# Altium integrated library Cypress USB Controllers.IntLib: 169 symbols (part 15 of 16)
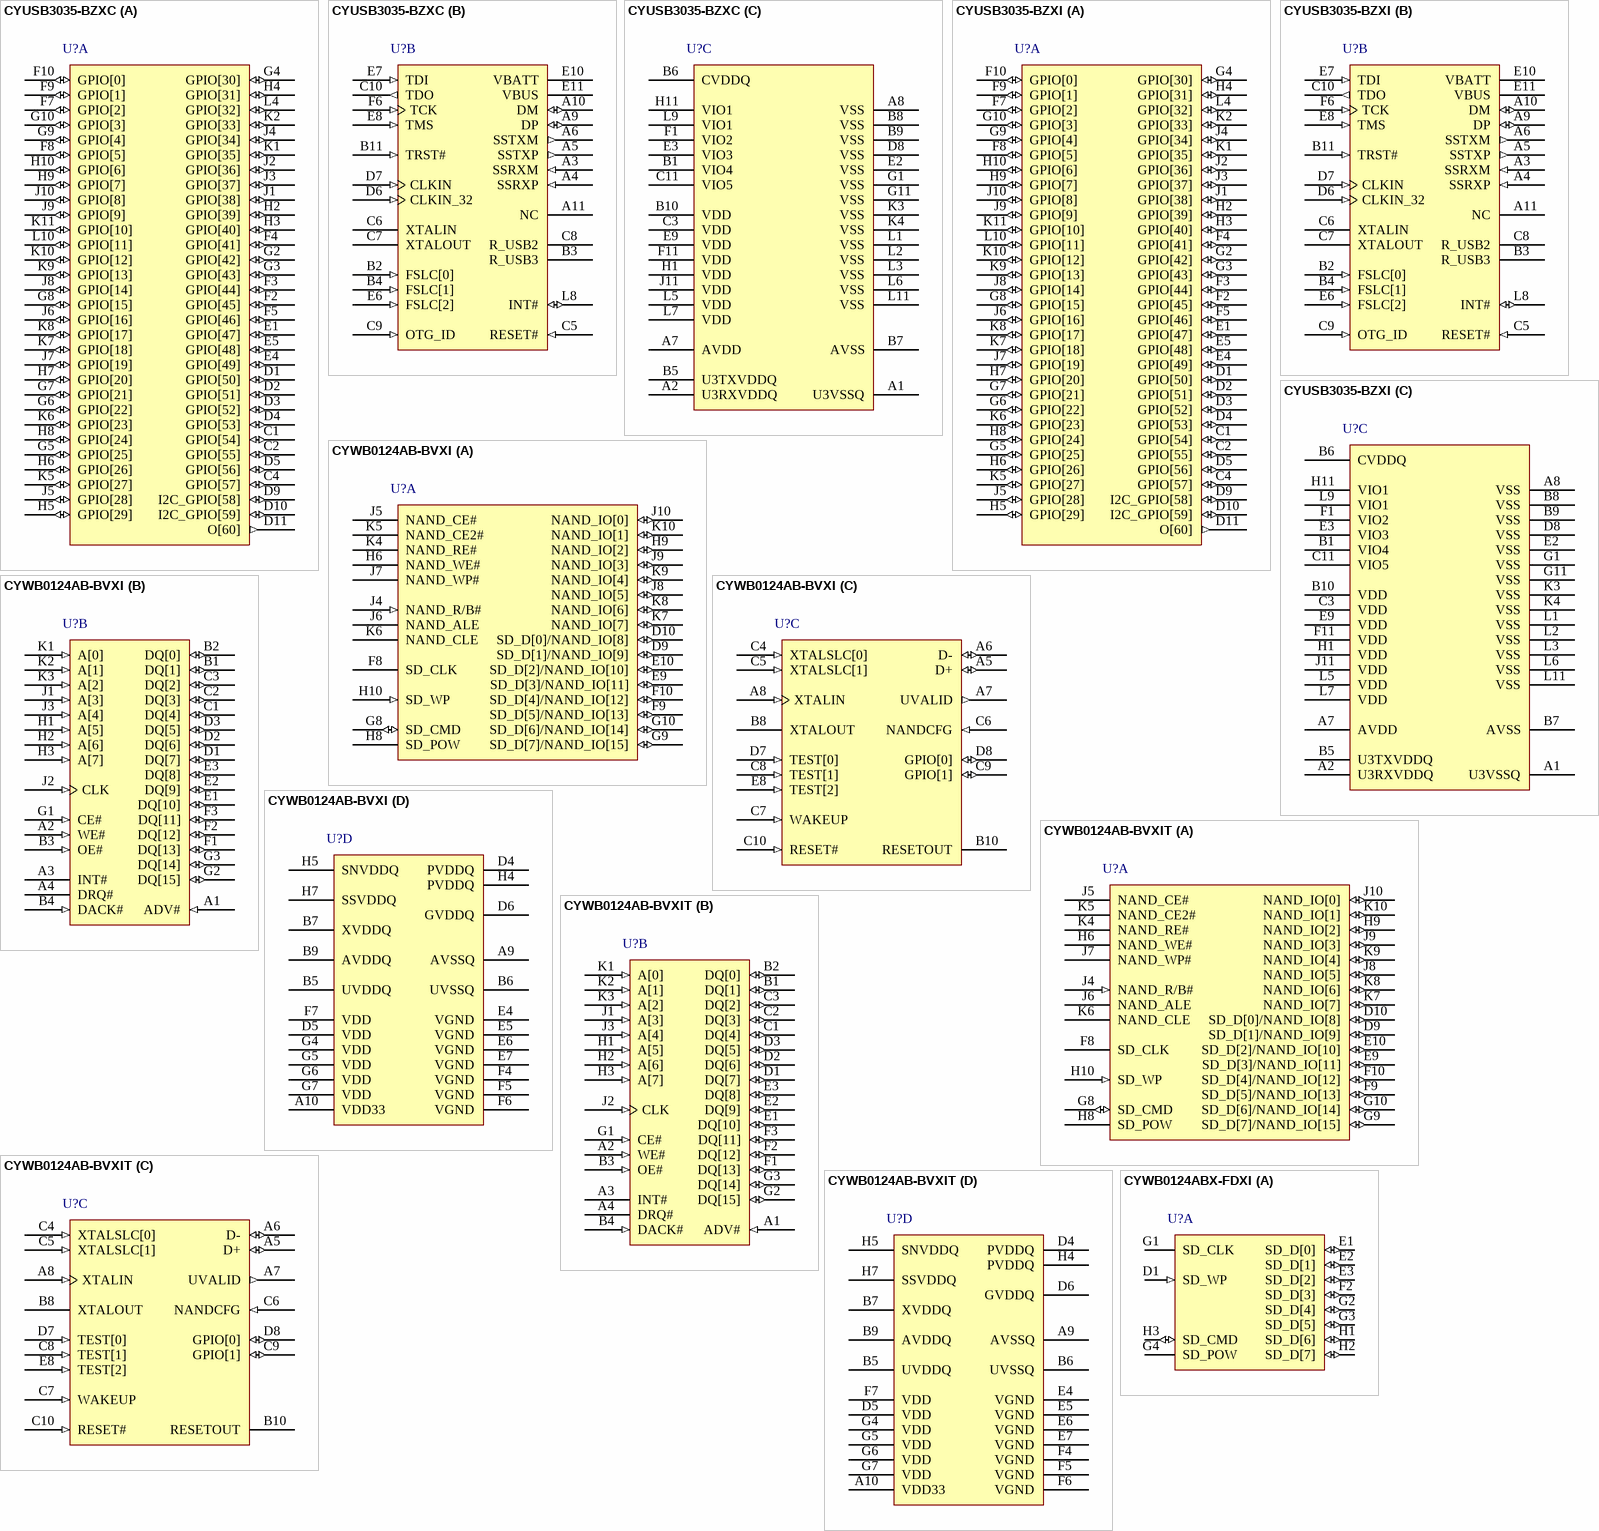
[diagram p36: symbols CYUSB3035-BZXC to CYWB0124ABX-FDXI]

## CYWB0124AB-BVXIT
designator U?
West Bridge(R) Antioch(TM) USB and Mass Storage Peripheral Controller, -40 to 85 degC, 100-Pin VFBGA (BVX100), Tape and Reel; Manufacturer: Cypress; PartNumber: CYWB0124AB-BVXIT; Max. Operating Voltage (V): 3.3; Min. Operating Voltage (V): 1.8; DatasheetVersion: Rev. *M; PackageVersion: Rev. *D; PackageReference: BVX100; PackageDescription: 100-Ball Fine-Pitch Ball Grid Array, Body 6 x 6 mm, Pitch 0.50 mm; Supplier 1: Digi-Key; Supplier Part Number 1: CYWB0124AB-BVXIT-ND; Supplier 2: Newark; Supplier Part Number 2: 41M1136; Supplier 3: Mouser; Supplier Part Number 3: 727-CYWB0124ABBVXIT; Max. Operating Temp. (degreesC): 85; Min. Operating Temp. (degreesC): -40; Packing: Tape and Reel; RoHS: Pb-Free; Mounting Technology: Surface Mount; ComponentLink1Description: Manufacturer URL; ComponentLink1URL: http://www.cypress.com/; ComponentLink2Description: Datasheet; ComponentLink2URL: http://www.cypress.com/?docID=46966; ComponentLink3Description: Package Specification; ComponentLink3URL: http://www.cypress.com/?docID=46966
footprint CYP-BVX100 (BGA, 100-Balls, Body 6x6mm, Pitch 0.5mm)
part A pins: D9 SD_D[1]/NAND_IO[9] (io) "Serve as SD_D[1] for SD port or NAND_IO[9] for NAND Upper I/O port depending on NANDCFG selection. NAND configuration is not available in WLCSP.", D10 SD_D[0]/NAND_IO[8] (io) "Serve as SD_D[0] for SD port or NAND_IO[8] for NAND Upper I/O port depending on NANDCFG selection. NAND configuration is not available in WLCSP.", E9 SD_D[3]/NAND_IO[11] (io) "Serve as SD_D[3] for SD port or NAND_IO[11] for NAND Upper I/O port depending on NANDCFG selection. NAND configuration is not available in WLCSP.", E10 SD_D[2]/NAND_IO[10] (io) "Serve as SD_D[2] for SD port or NAND_IO[10] for NAND Upper I/O port depending on NANDCFG selection. NAND configuration is not available in WLCSP.", F8 SD_CLK (hiz) "Clock output for the SD interface. Frequency is changed and clock is disabled through firmware control.", F9 SD_D[5]/NAND_IO[13] (io) "Serve as SD_D[5] for SD port or NAND_IO[13] forNAND Upper I/O port depending on NANDCFG selection. NAND configuration is not available in WLCSP.", F10 SD_D[4]/NAND_IO[12] (io) "Serve as SD_D[4] for SD port or NAND_IO[12] for NAND Upper I/O port depending on NANDCFG selection. NAND configuration is not available in WLCSP.", G8 SD_CMD (io) "SD Command/Response Ball.", G9 SD_D[7]/NAND_IO[15] (io) "Serve as SD_D[7] for SD port or NAND_IO[15] for NAND Upper I/O port depending on NANDCFG selection. NAND configuration is not available in WLCSP.", G10 SD_D[6]/NAND_IO[14] (io) "Serve as SD_D[6] for SD port or NAND_IO[14] for NAND Upper I/O port depending on NANDCFG selection. NAND configuration is not available in WLCSP.", H6 NAND_WE# (hiz) "NAND Write Enable. Active LOW.", H8 SD_POW (hiz) "SD Power Control. This GPIO is used to control SD/MMC card power FET if present. HIGH indicates on, LOW indicates off.", H9 NAND_IO[2] (io) "NAND_IO[2] for NAND Upper I/O port", H10 SD_WP (in) "SD Write Protection Detection. Connected to GPIO for firmware detection. HIGH indicates that the device connected to the SD port has write protect enabled.", J4 NAND_R/B# (in) "NAND Ready/Busy. NAND output is Open Drain. Active LOW.", J5 NAND_CE# (hiz) "NAND Chip Enable. Active LOW.", J6 NAND_ALE (hiz) "NAND Address Latch Enable.", J7 NAND_WP# (hiz) "NAND Write Protect. Active LOW.", J8 NAND_IO[5] (io) "NAND_IO[5] for NAND Upper I/O port", J9 NAND_IO[3] (io) "NAND_IO[3] for NAND Upper I/O port", J10 NAND_IO[0] (io) "NAND_IO[0] for NAND Upper I/O port", K4 NAND_RE# (hiz) "NAND Read Enable. Active LOW.", K5 NAND_CE2# (hiz) "NAND Chip Enable 2. Allows to access the second NAND device. Active LOW.", K6 NAND_CLE (hiz) "NAND Command Latch Enable.", K7 NAND_IO[7] (io) "NAND_IO[7] for NAND Upper I/O port", K8 NAND_IO[6] (io) "NAND_IO[6] for NAND Upper I/O port", K9 NAND_IO[4] (io) "NAND_IO[4] for NAND Upper I/O port", K10 NAND_IO[1] (io) "NAND_IO[1] for NAND Upper I/O port"
part B pins: A1 ADV# (in) "Address Valid for P-port. Valid during asynchronous mode. ADV# deassertion causes to latch the address.", A2 WE# (in) "Write Enable. Signals a read (HIGH) or write (LOW) access cycle.", A3 INT# (hiz) "Interrupt Request. Assertion indicates that aninterrupt event has occurred. Active LOW.", A4 DRQ# (hiz) "DMA Request. Assertion indicates to Processor that it is ready to read or write one or more endpoints. It reflects register CY_AN_MEM_P0_DRQ EPnDRQ assertions. Active LOW or HIGH (programmable).", B1 DQ[1] (io) "Bit 1 of Data Bus for P-port", B2 DQ[0] (io) "Bit 0 of Data Bus for P-port", B3 OE# (in) "Output Enable. Controls the data bus output drive. Ignored during write cycle. Active LOW.", B4 DACK# (in) "DMA Acknowledgement. Assertion indicates DMA acknowledgement from processor. Is configured in ACK mode (asserted throughout DMA transfer) or EOB mode (pulsed at end of DMA transfer). Active LOW or HIGH (program-mable).", C1 DQ[4] (io) "Bit 4 of Data Bus for P-port", C2 DQ[3] (io) "Bit 3 of Data Bus for P-port", C3 DQ[2] (io) "Bit 2 of Data Bus for P-port", D1 DQ[7] (io) "Bit 7 of Data Bus for P-port", D2 DQ[6] (io) "Bit 6 of Data Bus for P-port", D3 DQ[5] (io) "Bit 5 of Data Bus for P-port", E1 DQ[10] (io) "Bit 10 of Data Bus for P-port", E2 DQ[9] (io) "Bit 9 of Data Bus for P-port", E3 DQ[8] (io) "Bit 8 of Data Bus for P-port", F1 DQ[13] (io) "Bit 13 of Data Bus for P-port", F2 DQ[12] (io) "Bit 12 of Data Bus for P-port", F3 DQ[11] (io) "Bit 11 of Data Bus for P-port", G1 CE# (in) "Chip Select for P-port. Active LOW", G2 DQ[15] (io) "Bit 15 of Data Bus for P-port", G3 DQ[14] (io) "Bit 14 of Data Bus for P-port", H1 A[5] (in) "Bit 5 of Address Bus for P-port", H2 A[6] (in) "Bit 6 of Address Bus for P-port", H3 A[7] (in) "Bit 7 of Address Bus for P-port", J1 A[3] (in) "Bit 3 of Address Bus for P-port", J2 CLK (in) "Clock for P-port", J3 A[4] (in) "Bit 4 of Address Bus for P-port", K1 A[0] (in) "Bit 0 of Address Bus for P-port", K2 A[1] (in) "Bit 1 of Address Bus for P-port", K3 A[2] (in) "Bit 2 of Address Bus for P-port"
part C pins: A5 D+ (io) "USB D+", A6 D- (io) "USB D-", A7 UVALID (out) "External USB Switch Control. Reflects value of register CY_AN_MEM_PMU_UPDATE.UVALID.", A8 XTALIN (in) "Input for either crystal or clock signal. XVDDQ is 3.3 V for crystal input; XVDDQ is 1.8 V for clock input.", B8 XTALOUT "Output to connect to feedback input of crystal. Is leftfloating when external clock at XTALIN.", B10 RESETOUT (hiz) "Reset Out. Deasserted LOW when RESET# is asserted LOW. Asserted HIGH after RESET# is deasserted and initialization is complete. Reflectsvalue of RSTCMPT bit.", C4 XTALSLC[0] (in) "Clock Select. For CYWB0124AB, XTALSLC[1:0] is decoded as: 00 = 19.2 MHz, 01 = 24 MHz, 10 = 48 MHz, 11 = 26 MHz.", C5 XTALSLC[1] (in) "Clock Select. For CYWB0124AB, XTALSLC[1:0] is decoded as: 00 = 19.2 MHz, 01 = 24 MHz, 10 = 48 MHz, 11 = 26 MHz.", C6 NANDCFG (in) "S-port Configuration. '0' selects 8-bit NAND andSD/MMC configuration. '1' selects 16-bit NAND configuration.", C7 WAKEUP (in) "Wake Up Signal. 1 = normal operation, 0 = low power“sleep” mode. Is asserted for Antioch to initialize.", C8 TEST[1] (in) "Test mode selection. Is tied to VGND for normal operation (CMOS level inputs).", C9 GPIO[1] (io) "General purpose input/output.", C10 RESET# (in) "Reset. Asserted to place Antioch into reset mode and subsequent initialization. Active LOW.", D7 TEST[0] (in) "Test mode selection. Is tied to VGND for normal operation (CMOS level inputs).", D8 GPIO[0] (io) "General purpose input/output.GPIO[0] is used for SD Card Detect with firmware detection. LOW indicates card is inserted.", E8 TEST[2] (in) "Test mode selection. Is tied to VGND for normal operation (CMOS level inputs)."
part D pins: A9 AVSSQ (power) "Ground for PLL.", A10 VDD33 (power) "Power sequence control supply. 3.3 V nominal.", B5 UVDDQ (power) "Power for USB I/O. 3.3 V nominal.", B6 UVSSQ (power) "Ground for all USB.", B7 XVDDQ (power) "Power for crystal or clock I/O. 1.8 V (clock) or 3.3 V (crystal) nominal.", B9 AVDDQ (power) "Power for internal PLL and USB serializer. 1.8 V nominal.", D4 PVDDQ (power) "Power for P-port I/O. 1.8 V, 2.5 V, or 3.3 V nominal.", D5 VDD (power) "Power for core. 1.8 V nominal.", D6 GVDDQ (power) "Power for miscellaneous I/O. 1.8 V, 2.5 V, or 3.3 V nominal.", E4 VGND (power) "Ground for core.", E5 VGND (power) "Ground for core.", E6 VGND (power) "Ground for core.", E7 VGND (power) "Ground for core.", F4 VGND (power) "Ground for core.", F5 VGND (power) "Ground for core.", F6 VGND (power) "Ground for core.", F7 VDD (power) "Power for core. 1.8 V nominal.", G4 VDD (power) "Power for core. 1.8 V nominal.", G5 VDD (power) "Power for core. 1.8 V nominal.", G6 VDD (power) "Power for core. 1.8 V nominal.", G7 VDD (power) "Power for core. 1.8 V nominal.", H4 PVDDQ (power) "Power for P-port I/O. 1.8 V, 2.5 V, or 3.3 V nominal.", H5 SNVDDQ (power) "Power for NAND port I/O. 1.8 V, 2.5 V, or 3.3 V nominal.", H7 SSVDDQ (power) "Power for SD port, is connected to SNVDDQ if using 16-bit NAND. 1.8 V, 2.5 V, or 3.3 V nominal."

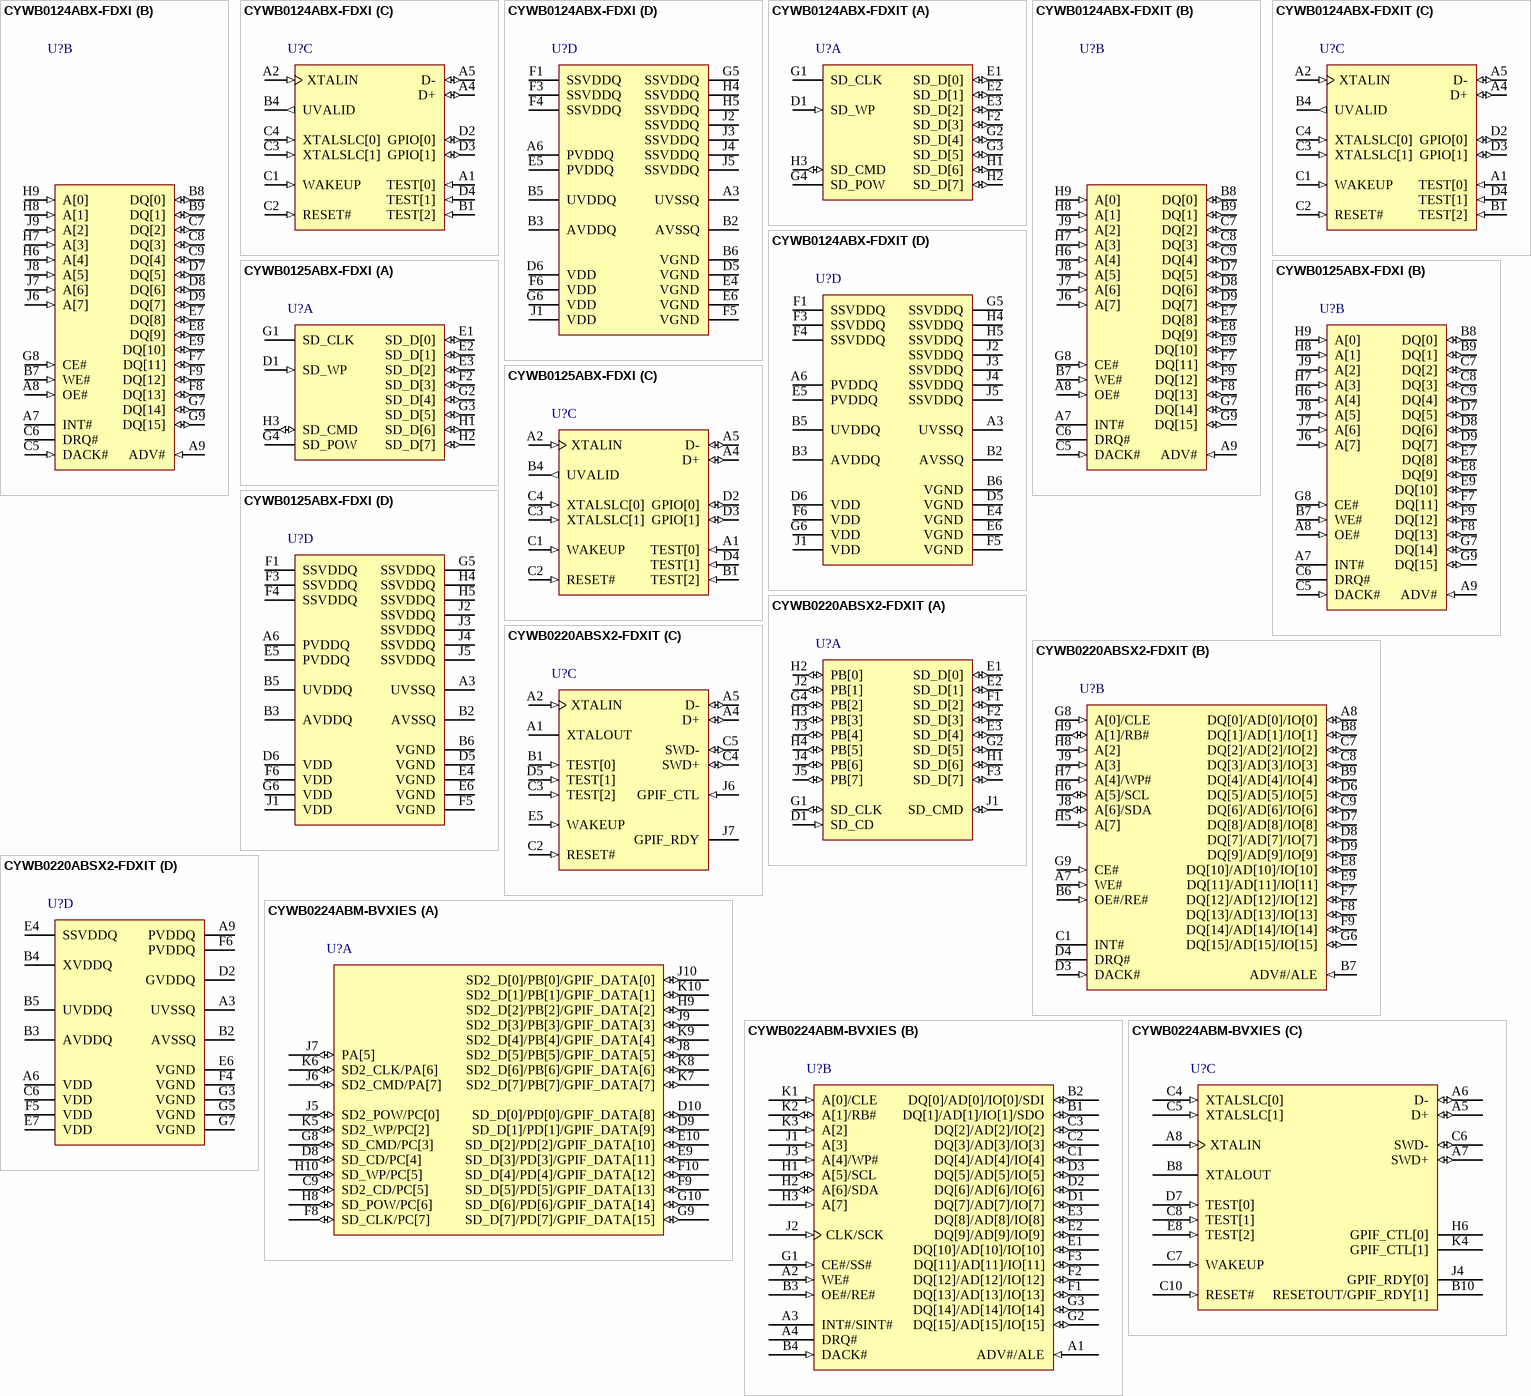
[diagram p18: symbols CYWB0124ABX-FDXI to CYWB0224ABM-BVXIES]

## CYWB0124ABX-FDXI
designator U?
West Bridge(R) Antioch(TM) USB and Mass Storage Peripheral Controller, -40 to 85 degC, 81-Pin WLCSP (FDX81); Manufacturer: Cypress; PartNumber: CYWB0124ABX-FDXI; Max. Operating Voltage (V): 3.3; Min. Operating Voltage (V): 1.8; DatasheetVersion: Rev. *M; PackageVersion: Rev. *F; PackageReference: FDX81; PackageDescription: 81-Ball Wafer Level Chip Scale Package, Body 3.788 x 3.784 mm, Pitch 0.4 mm; Supplier 1: Mouser; Supplier Part Number 1: 727-CYWB0124ABX-FDXI; Max. Operating Temp. (degreesC): 85; Min. Operating Temp. (degreesC): -40; RoHS: Pb-Free; Mounting Technology: Surface Mount; ComponentLink1Description: Manufacturer URL; ComponentLink1URL: http://www.cypress.com/; ComponentLink2Description: Datasheet; ComponentLink2URL: http://www.cypress.com/?docID=46966; ComponentLink3Description: Package Specification; ComponentLink3URL: http://www.cypress.com/?docID=46966
footprint CYP-FDX81 (BGA, 81-Balls, Body 3.79x3.78mm, Pitch 0.4mm)
part A pins: D1 SD_WP (in) "SD Write Protection Detection. Connected to GPIO for firmware detection. HIGH indicates that the device connected to the SD port has write protect enabled.", E1 SD_D[0] (io) "Serve as SD_D[0] for SD port or NAND_IO[8] for NAND Upper I/O port depending on NANDCFG selection. NAND configuration is not available in WLCSP.", E2 SD_D[1] (io) "Serve as SD_D[1] for SD port or NAND_IO[9] for NAND Upper I/O port depending on NANDCFG selection. NAND configuration is not available in WLCSP.", E3 SD_D[2] (io) "Serve as SD_D[2] for SD port or NAND_IO[10] for NAND Upper I/O port depending on NANDCFG selection. NAND configuration is not available in WLCSP.", F2 SD_D[3] (io) "Serve as SD_D[3] for SD port or NAND_IO[11] for NAND Upper I/O port depending on NANDCFG selection. NAND configuration is not available in WLCSP.", G1 SD_CLK (hiz) "Clock output for the SD interface. Frequency is changed and clock is disabled through firmware control.", G2 SD_D[4] (io) "Serve as SD_D[4] for SD port or NAND_IO[12] for NAND Upper I/O port depending on NANDCFG selection. NAND configuration is not available in WLCSP.", G3 SD_D[5] (io) "Serve as SD_D[5] for SD port or NAND_IO[13] forNAND Upper I/O port depending on NANDCFG selection. NAND configuration is not available in WLCSP.", G4 SD_POW (hiz) "SD Power Control. This GPIO is used to control SD/MMC card power FET if present. HIGH indicates on, LOW indicates off.", H1 SD_D[6] (io) "Serve as SD_D[6] for SD port or NAND_IO[14] for NAND Upper I/O port depending on NANDCFG selection. NAND configuration is not available in WLCSP.", H2 SD_D[7] (io) "Serve as SD_D[7] for SD port or NAND_IO[15] for NAND Upper I/O port depending on NANDCFG selection. NAND configuration is not available in WLCSP.", H3 SD_CMD (io) "SD Command/Response Ball."
part B pins: A7 INT# (hiz) "Interrupt Request. Assertion indicates that aninterrupt event has occurred. Active LOW.", A8 OE# (in) "Output Enable. Controls the data bus output drive. Ignored during write cycle. Active LOW.", A9 ADV# (in) "Address Valid for P-port. Valid during asynchronous mode. ADV# deassertion causes to latch the address.", B7 WE# (in) "Write Enable. Signals a read (HIGH) or write (LOW) access cycle.", B8 DQ[0] (io) "Bit 0 of Data Bus for P-port", B9 DQ[1] (io) "Bit 1 of Data Bus for P-port", C5 DACK# (in) "DMA Acknowledgement. Assertion indicates DMA acknowledgement from processor. Is configured in ACK mode (asserted throughout DMA transfer) or EOB mode (pulsed at end of DMA transfer). Active LOW or HIGH (program-mable).", C6 DRQ# (hiz) "DMA Request. Assertion indicates to Processor that it is ready to read or write one or more endpoints. It reflects register CY_AN_MEM_P0_DRQ EPnDRQ assertions. Active LOW or HIGH (programmable).", C7 DQ[2] (io) "Bit 2 of Data Bus for P-port", C8 DQ[3] (io) "Bit 3 of Data Bus for P-port", C9 DQ[4] (io) "Bit 4 of Data Bus for P-port", D7 DQ[5] (io) "Bit 5 of Data Bus for P-port", D8 DQ[6] (io) "Bit 6 of Data Bus for P-port", D9 DQ[7] (io) "Bit 7 of Data Bus for P-port", E7 DQ[8] (io) "Bit 8 of Data Bus for P-port", E8 DQ[9] (io) "Bit 9 of Data Bus for P-port", E9 DQ[10] (io) "Bit 10 of Data Bus for P-port", F7 DQ[11] (io) "Bit 11 of Data Bus for P-port", F8 DQ[13] (io) "Bit 13 of Data Bus for P-port", F9 DQ[12] (io) "Bit 12 of Data Bus for P-port", G7 DQ[14] (io) "Bit 14 of Data Bus for P-port", G8 CE# (in) "Chip Select for P-port. Active LOW", G9 DQ[15] (io) "Bit 15 of Data Bus for P-port", H6 A[4] (in) "Bit 4 of Address Bus for P-port", H7 A[3] (in) "Bit 3 of Address Bus for P-port", H8 A[1] (in) "Bit 1 of Address Bus for P-port", H9 A[0] (in) "Bit 0 of Address Bus for P-port", J6 A[7] (in) "Bit 7 of Address Bus for P-port", J7 A[6] (in) "Bit 6 of Address Bus for P-port", J8 A[5] (in) "Bit 5 of Address Bus for P-port", J9 A[2] (in) "Bit 2 of Address Bus for P-port"
part C pins: A1 TEST[0] (in) "Test mode selection. Is tied to VGND for normal operation (CMOS level inputs).", A2 XTALIN (in) "Input for either crystal or clock signal. XVDDQ is 3.3 V for crystal input; XVDDQ is 1.8 V for clock input.", A4 D+ (io) "USB D+", A5 D- (io) "USB D-", B1 TEST[2] (in) "Test mode selection. Is tied to VGND for normal operation (CMOS level inputs).", B4 UVALID (out) "External USB Switch Control. Reflects value of register CY_AN_MEM_PMU_UPDATE.UVALID.", C1 WAKEUP (in) "Wake Up Signal. 1 = normal operation, 0 = low power 'sleep' mode. Is asserted for Antioch to initialize.", C2 RESET# (in) "Reset. Asserted to place Antioch into reset mode and subsequent initialization. Active LOW.", C3 XTALSLC[1] (in) "Clock Select. For CYWB0124AB, XTALSLC[1:0] is decoded as: 00 = 19.2 MHz, 01 = 24 MHz, 10 = 48 MHz, 11 = 26 MHz.", C4 XTALSLC[0] (in) "Clock Select. For CYWB0124AB, XTALSLC[1:0] is decoded as: 00 = 19.2 MHz, 01 = 24 MHz, 10 = 48 MHz, 11 = 26 MHz.", D2 GPIO[0] (io) "General purpose input/output.GPIO[0] is used for SD Card Detect with firmware detection. LOW indicates card is inserted.", D3 GPIO[1] (io) "General purpose input/output.", D4 TEST[1] (in) "Test mode selection. Is tied to VGND for normal operation (CMOS level inputs)."
part D pins: A3 UVSSQ (power) "Ground for all USB.", A6 PVDDQ (power) "Power for P-port I/O. 1.8 V, 2.5 V, or 3.3 V nominal.", B2 AVSSQ (power) "Ground for PLL.", B3 AVDDQ (power) "Power for internal PLL and USB serializer. 1.8 V nominal.", B5 UVDDQ (power) "Power for USB I/O. 3.3 V nominal.", B6 VGND (power) "Ground for core.", D5 VGND (power) "Ground for core.", D6 VDD (power) "Power for core. 1.8 V nominal.", E4 VGND (power) "Ground for core.", E5 PVDDQ (power) "Power for P-port I/O. 1.8 V, 2.5 V, or 3.3 V nominal.", E6 VGND (power) "Ground for core.", F1 SSVDDQ (power) "Power for SD port, is connected to SNVDDQ if using 16-bit NAND. 1.8 V, 2.5 V, or 3.3 V nominal.", F3 SSVDDQ (power) "Power for SD port, is connected to SNVDDQ if using 16-bit NAND. 1.8 V, 2.5 V, or 3.3 V nominal.", F4 SSVDDQ (power) "Power for SD port, is connected to SNVDDQ if using 16-bit NAND. 1.8 V, 2.5 V, or 3.3 V nominal.", F5 VGND (power) "Ground for core.", F6 VDD (power) "Power for core. 1.8 V nominal.", G5 SSVDDQ (power) "Power for SD port, is connected to SNVDDQ if using 16-bit NAND. 1.8 V, 2.5 V, or 3.3 V nominal.", G6 VDD (power) "Power for core. 1.8 V nominal.", H4 SSVDDQ (power) "Power for SD port, is connected to SNVDDQ if using 16-bit NAND. 1.8 V, 2.5 V, or 3.3 V nominal.", H5 SSVDDQ (power) "Power for SD port, is connected to SNVDDQ if using 16-bit NAND. 1.8 V, 2.5 V, or 3.3 V nominal.", J1 VDD (power) "Power for core. 1.8 V nominal.", J2 SSVDDQ (power) "Power for SD port, is connected to SNVDDQ if using 16-bit NAND. 1.8 V, 2.5 V, or 3.3 V nominal.", J3 SSVDDQ (power) "Power for SD port, is connected to SNVDDQ if using 16-bit NAND. 1.8 V, 2.5 V, or 3.3 V nominal.", J4 SSVDDQ (power) "Power for SD port, is connected to SNVDDQ if using 16-bit NAND. 1.8 V, 2.5 V, or 3.3 V nominal.", J5 SSVDDQ (power) "Power for SD port, is connected to SNVDDQ if using 16-bit NAND. 1.8 V, 2.5 V, or 3.3 V nominal."

## CYWB0124ABX-FDXIT
designator U?
West Bridge(R) Antioch(TM) USB and Mass Storage Peripheral Controller, -40 to 85 degC, 81-Pin WLCSP (FDX81), Tape and Reel; Manufacturer: Cypress; PartNumber: CYWB0124ABX-FDXIT; Max. Operating Voltage (V): 3.3; Min. Operating Voltage (V): 1.8; DatasheetVersion: Rev. *M; PackageVersion: Rev. *F; PackageReference: FDX81; PackageDescription: 81-Ball Wafer Level Chip Scale Package, Body 3.788 x 3.784 mm, Pitch 0.4 mm; Supplier 1: Digi-Key; Supplier Part Number 1: CYWB0124ABX-FDXIT-ND; Supplier 2: Mouser; Supplier Part Number 2: 727-CYWB0124ABXFDXIT; Max. Operating Temp. (degreesC): 85; Min. Operating Temp. (degreesC): -40; Packing: Tape and Reel; RoHS: Pb-Free; Mounting Technology: Surface Mount; ComponentLink1Description: Manufacturer URL; ComponentLink1URL: http://www.cypress.com/; ComponentLink2Description: Datasheet; ComponentLink2URL: http://www.cypress.com/?docID=46966; ComponentLink3Description: Package Specification; ComponentLink3URL: http://www.cypress.com/?docID=46966
footprint CYP-FDX81 (BGA, 81-Balls, Body 3.79x3.78mm, Pitch 0.4mm)
part A pins: D1 SD_WP (in) "SD Write Protection Detection. Connected to GPIO for firmware detection. HIGH indicates that the device connected to the SD port has write protect enabled.", E1 SD_D[0] (io) "Serve as SD_D[0] for SD port or NAND_IO[8] for NAND Upper I/O port depending on NANDCFG selection. NAND configuration is not available in WLCSP.", E2 SD_D[1] (io) "Serve as SD_D[1] for SD port or NAND_IO[9] for NAND Upper I/O port depending on NANDCFG selection. NAND configuration is not available in WLCSP.", E3 SD_D[2] (io) "Serve as SD_D[2] for SD port or NAND_IO[10] for NAND Upper I/O port depending on NANDCFG selection. NAND configuration is not available in WLCSP.", F2 SD_D[3] (io) "Serve as SD_D[3] for SD port or NAND_IO[11] for NAND Upper I/O port depending on NANDCFG selection. NAND configuration is not available in WLCSP.", G1 SD_CLK (hiz) "Clock output for the SD interface. Frequency is changed and clock is disabled through firmware control.", G2 SD_D[4] (io) "Serve as SD_D[4] for SD port or NAND_IO[12] for NAND Upper I/O port depending on NANDCFG selection. NAND configuration is not available in WLCSP.", G3 SD_D[5] (io) "Serve as SD_D[5] for SD port or NAND_IO[13] forNAND Upper I/O port depending on NANDCFG selection. NAND configuration is not available in WLCSP.", G4 SD_POW (hiz) "SD Power Control. This GPIO is used to control SD/MMC card power FET if present. HIGH indicates on, LOW indicates off.", H1 SD_D[6] (io) "Serve as SD_D[6] for SD port or NAND_IO[14] for NAND Upper I/O port depending on NANDCFG selection. NAND configuration is not available in WLCSP.", H2 SD_D[7] (io) "Serve as SD_D[7] for SD port or NAND_IO[15] for NAND Upper I/O port depending on NANDCFG selection. NAND configuration is not available in WLCSP.", H3 SD_CMD (io) "SD Command/Response Ball."
part B pins: A7 INT# (hiz) "Interrupt Request. Assertion indicates that aninterrupt event has occurred. Active LOW.", A8 OE# (in) "Output Enable. Controls the data bus output drive. Ignored during write cycle. Active LOW.", A9 ADV# (in) "Address Valid for P-port. Valid during asynchronous mode. ADV# deassertion causes to latch the address.", B7 WE# (in) "Write Enable. Signals a read (HIGH) or write (LOW) access cycle.", B8 DQ[0] (io) "Bit 0 of Data Bus for P-port", B9 DQ[1] (io) "Bit 1 of Data Bus for P-port", C5 DACK# (in) "DMA Acknowledgement. Assertion indicates DMA acknowledgement from processor. Is configured in ACK mode (asserted throughout DMA transfer) or EOB mode (pulsed at end of DMA transfer). Active LOW or HIGH (program-mable).", C6 DRQ# (hiz) "DMA Request. Assertion indicates to Processor that it is ready to read or write one or more endpoints. It reflects register CY_AN_MEM_P0_DRQ EPnDRQ assertions. Active LOW or HIGH (programmable).", C7 DQ[2] (io) "Bit 2 of Data Bus for P-port", C8 DQ[3] (io) "Bit 3 of Data Bus for P-port", C9 DQ[4] (io) "Bit 4 of Data Bus for P-port", D7 DQ[5] (io) "Bit 5 of Data Bus for P-port", D8 DQ[6] (io) "Bit 6 of Data Bus for P-port", D9 DQ[7] (io) "Bit 7 of Data Bus for P-port", E7 DQ[8] (io) "Bit 8 of Data Bus for P-port", E8 DQ[9] (io) "Bit 9 of Data Bus for P-port", E9 DQ[10] (io) "Bit 10 of Data Bus for P-port", F7 DQ[11] (io) "Bit 11 of Data Bus for P-port", F8 DQ[13] (io) "Bit 13 of Data Bus for P-port", F9 DQ[12] (io) "Bit 12 of Data Bus for P-port", G7 DQ[14] (io) "Bit 14 of Data Bus for P-port", G8 CE# (in) "Chip Select for P-port. Active LOW", G9 DQ[15] (io) "Bit 15 of Data Bus for P-port", H6 A[4] (in) "Bit 4 of Address Bus for P-port", H7 A[3] (in) "Bit 3 of Address Bus for P-port", H8 A[1] (in) "Bit 1 of Address Bus for P-port", H9 A[0] (in) "Bit 0 of Address Bus for P-port", J6 A[7] (in) "Bit 7 of Address Bus for P-port", J7 A[6] (in) "Bit 6 of Address Bus for P-port", J8 A[5] (in) "Bit 5 of Address Bus for P-port", J9 A[2] (in) "Bit 2 of Address Bus for P-port"
part C pins: A1 TEST[0] (in) "Test mode selection. Is tied to VGND for normal operation (CMOS level inputs).", A2 XTALIN (in) "Input for either crystal or clock signal. XVDDQ is 3.3 V for crystal input; XVDDQ is 1.8 V for clock input.", A4 D+ (io) "USB D+", A5 D- (io) "USB D-", B1 TEST[2] (in) "Test mode selection. Is tied to VGND for normal operation (CMOS level inputs).", B4 UVALID (out) "External USB Switch Control. Reflects value of register CY_AN_MEM_PMU_UPDATE.UVALID.", C1 WAKEUP (in) "Wake Up Signal. 1 = normal operation, 0 = low power 'sleep' mode. Is asserted for Antioch to initialize.", C2 RESET# (in) "Reset. Asserted to place Antioch into reset mode and subsequent initialization. Active LOW.", C3 XTALSLC[1] (in) "Clock Select. For CYWB0124AB, XTALSLC[1:0] is decoded as: 00 = 19.2 MHz, 01 = 24 MHz, 10 = 48 MHz, 11 = 26 MHz.", C4 XTALSLC[0] (in) "Clock Select. For CYWB0124AB, XTALSLC[1:0] is decoded as: 00 = 19.2 MHz, 01 = 24 MHz, 10 = 48 MHz, 11 = 26 MHz.", D2 GPIO[0] (io) "General purpose input/output.GPIO[0] is used for SD Card Detect with firmware detection. LOW indicates card is inserted.", D3 GPIO[1] (io) "General purpose input/output.", D4 TEST[1] (in) "Test mode selection. Is tied to VGND for normal operation (CMOS level inputs)."
part D pins: A3 UVSSQ (power) "Ground for all USB.", A6 PVDDQ (power) "Power for P-port I/O. 1.8 V, 2.5 V, or 3.3 V nominal.", B2 AVSSQ (power) "Ground for PLL.", B3 AVDDQ (power) "Power for internal PLL and USB serializer. 1.8 V nominal.", B5 UVDDQ (power) "Power for USB I/O. 3.3 V nominal.", B6 VGND (power) "Ground for core.", D5 VGND (power) "Ground for core.", D6 VDD (power) "Power for core. 1.8 V nominal.", E4 VGND (power) "Ground for core.", E5 PVDDQ (power) "Power for P-port I/O. 1.8 V, 2.5 V, or 3.3 V nominal.", E6 VGND (power) "Ground for core.", F1 SSVDDQ (power) "Power for SD port, is connected to SNVDDQ if using 16-bit NAND. 1.8 V, 2.5 V, or 3.3 V nominal.", F3 SSVDDQ (power) "Power for SD port, is connected to SNVDDQ if using 16-bit NAND. 1.8 V, 2.5 V, or 3.3 V nominal.", F4 SSVDDQ (power) "Power for SD port, is connected to SNVDDQ if using 16-bit NAND. 1.8 V, 2.5 V, or 3.3 V nominal.", F5 VGND (power) "Ground for core.", F6 VDD (power) "Power for core. 1.8 V nominal.", G5 SSVDDQ (power) "Power for SD port, is connected to SNVDDQ if using 16-bit NAND. 1.8 V, 2.5 V, or 3.3 V nominal.", G6 VDD (power) "Power for core. 1.8 V nominal.", H4 SSVDDQ (power) "Power for SD port, is connected to SNVDDQ if using 16-bit NAND. 1.8 V, 2.5 V, or 3.3 V nominal.", H5 SSVDDQ (power) "Power for SD port, is connected to SNVDDQ if using 16-bit NAND. 1.8 V, 2.5 V, or 3.3 V nominal.", J1 VDD (power) "Power for core. 1.8 V nominal.", J2 SSVDDQ (power) "Power for SD port, is connected to SNVDDQ if using 16-bit NAND. 1.8 V, 2.5 V, or 3.3 V nominal.", J3 SSVDDQ (power) "Power for SD port, is connected to SNVDDQ if using 16-bit NAND. 1.8 V, 2.5 V, or 3.3 V nominal.", J4 SSVDDQ (power) "Power for SD port, is connected to SNVDDQ if using 16-bit NAND. 1.8 V, 2.5 V, or 3.3 V nominal.", J5 SSVDDQ (power) "Power for SD port, is connected to SNVDDQ if using 16-bit NAND. 1.8 V, 2.5 V, or 3.3 V nominal."

## CYWB0125ABX-FDXI
designator U?
West Bridge(R) Antioch(TM) USB and Mass Storage Peripheral Controller, -40 to 85 degC, 81-Pin WLCSP (FDX81); Manufacturer: Cypress; PartNumber: CYWB0125ABX-FDXI; Max. Operating Voltage (V): 3.3; Min. Operating Voltage (V): 1.8; DatasheetVersion: Rev. *M; PackageVersion: Rev. *F; PackageReference: FDX81; PackageDescription: 81-Ball Wafer Level Chip Scale Package, Body 3.788 x 3.784 mm, Pitch 0.4 mm; Max. Operating Temp. (degreesC): 85; Min. Operating Temp. (degreesC): -40; RoHS: Pb-Free; Mounting Technology: Surface Mount; ComponentLink1Description: Manufacturer URL; ComponentLink1URL: http://www.cypress.com/; ComponentLink2Description: Datasheet; ComponentLink2URL: http://www.cypress.com/?docID=46966; ComponentLink3Description: Package Specification; ComponentLink3URL: http://www.cypress.com/?docID=46966
footprint CYP-FDX81 (BGA, 81-Balls, Body 3.79x3.78mm, Pitch 0.4mm)
part A pins: D1 SD_WP (in) "SD Write Protection Detection. Connected to GPIO for firmware detection. HIGH indicates that the device connected to the SD port has write protect enabled.", E1 SD_D[0] (io) "Serve as SD_D[0] for SD port or NAND_IO[8] for NAND Upper I/O port depending on NANDCFG selection. NAND configuration is not available in WLCSP.", E2 SD_D[1] (io) "Serve as SD_D[1] for SD port or NAND_IO[9] for NAND Upper I/O port depending on NANDCFG selection. NAND configuration is not available in WLCSP.", E3 SD_D[2] (io) "Serve as SD_D[2] for SD port or NAND_IO[10] for NAND Upper I/O port depending on NANDCFG selection. NAND configuration is not available in WLCSP.", F2 SD_D[3] (io) "Serve as SD_D[3] for SD port or NAND_IO[11] for NAND Upper I/O port depending on NANDCFG selection. NAND configuration is not available in WLCSP.", G1 SD_CLK (hiz) "Clock output for the SD interface. Frequency is changed and clock is disabled through firmware control.", G2 SD_D[4] (io) "Serve as SD_D[4] for SD port or NAND_IO[12] for NAND Upper I/O port depending on NANDCFG selection. NAND configuration is not available in WLCSP.", G3 SD_D[5] (io) "Serve as SD_D[5] for SD port or NAND_IO[13] forNAND Upper I/O port depending on NANDCFG selection. NAND configuration is not available in WLCSP.", G4 SD_POW (hiz) "SD Power Control. This GPIO is used to control SD/MMC card power FET if present. HIGH indicates on, LOW indicates off.", H1 SD_D[6] (io) "Serve as SD_D[6] for SD port or NAND_IO[14] for NAND Upper I/O port depending on NANDCFG selection. NAND configuration is not available in WLCSP.", H2 SD_D[7] (io) "Serve as SD_D[7] for SD port or NAND_IO[15] for NAND Upper I/O port depending on NANDCFG selection. NAND configuration is not available in WLCSP.", H3 SD_CMD (io) "SD Command/Response Ball."
part B pins: A7 INT# (hiz) "Interrupt Request. Assertion indicates that aninterrupt event has occurred. Active LOW.", A8 OE# (in) "Output Enable. Controls the data bus output drive. Ignored during write cycle. Active LOW.", A9 ADV# (in) "Address Valid for P-port. Valid during asynchronous mode. ADV# deassertion causes to latch the address.", B7 WE# (in) "Write Enable. Signals a read (HIGH) or write (LOW) access cycle.", B8 DQ[0] (io) "Bit 0 of Data Bus for P-port", B9 DQ[1] (io) "Bit 1 of Data Bus for P-port", C5 DACK# (in) "DMA Acknowledgement. Assertion indicates DMA acknowledgement from processor. Is configured in ACK mode (asserted throughout DMA transfer) or EOB mode (pulsed at end of DMA transfer). Active LOW or HIGH (program-mable).", C6 DRQ# (hiz) "DMA Request. Assertion indicates to Processor that it is ready to read or write one or more endpoints. It reflects register CY_AN_MEM_P0_DRQ EPnDRQ assertions. Active LOW or HIGH (programmable).", C7 DQ[2] (io) "Bit 2 of Data Bus for P-port", C8 DQ[3] (io) "Bit 3 of Data Bus for P-port", C9 DQ[4] (io) "Bit 4 of Data Bus for P-port", D7 DQ[5] (io) "Bit 5 of Data Bus for P-port", D8 DQ[6] (io) "Bit 6 of Data Bus for P-port", D9 DQ[7] (io) "Bit 7 of Data Bus for P-port", E7 DQ[8] (io) "Bit 8 of Data Bus for P-port", E8 DQ[9] (io) "Bit 9 of Data Bus for P-port", E9 DQ[10] (io) "Bit 10 of Data Bus for P-port", F7 DQ[11] (io) "Bit 11 of Data Bus for P-port", F8 DQ[13] (io) "Bit 13 of Data Bus for P-port", F9 DQ[12] (io) "Bit 12 of Data Bus for P-port", G7 DQ[14] (io) "Bit 14 of Data Bus for P-port", G8 CE# (in) "Chip Select for P-port. Active LOW", G9 DQ[15] (io) "Bit 15 of Data Bus for P-port", H6 A[4] (in) "Bit 4 of Address Bus for P-port", H7 A[3] (in) "Bit 3 of Address Bus for P-port", H8 A[1] (in) "Bit 1 of Address Bus for P-port", H9 A[0] (in) "Bit 0 of Address Bus for P-port", J6 A[7] (in) "Bit 7 of Address Bus for P-port", J7 A[6] (in) "Bit 6 of Address Bus for P-port", J8 A[5] (in) "Bit 5 of Address Bus for P-port", J9 A[2] (in) "Bit 2 of Address Bus for P-port"
part C pins: A1 TEST[0] (in) "Test mode selection. Is tied to VGND for normal operation (CMOS level inputs).", A2 XTALIN (in) "Input for either crystal or clock signal. XVDDQ is 3.3 V for crystal input; XVDDQ is 1.8 V for clock input.", A4 D+ (io) "USB D+", A5 D- (io) "USB D-", B1 TEST[2] (in) "Test mode selection. Is tied to VGND for normal operation (CMOS level inputs).", B4 UVALID (out) "External USB Switch Control. Reflects value of register CY_AN_MEM_PMU_UPDATE.UVALID.", C1 WAKEUP (in) "Wake Up Signal. 1 = normal operation, 0 = low power 'sleep' mode. Is asserted for Antioch to initialize.", C2 RESET# (in) "Reset. Asserted to place Antioch into reset mode and subsequent initialization. Active LOW.", C3 XTALSLC[1] (in) "Clock Select. For CYWB0124AB, XTALSLC[1:0] is decoded as: 00 = 19.2 MHz, 01 = 24 MHz, 10 = 48 MHz, 11 = 26 MHz.", C4 XTALSLC[0] (in) "Clock Select. For CYWB0124AB, XTALSLC[1:0] is decoded as: 00 = 19.2 MHz, 01 = 24 MHz, 10 = 48 MHz, 11 = 26 MHz.", D2 GPIO[0] (io) "General purpose input/output.GPIO[0] is used for SD Card Detect with firmware detection. LOW indicates card is inserted.", D3 GPIO[1] (io) "General purpose input/output.", D4 TEST[1] (in) "Test mode selection. Is tied to VGND for normal operation (CMOS level inputs)."
part D pins: A3 UVSSQ (power) "Ground for all USB.", A6 PVDDQ (power) "Power for P-port I/O. 1.8 V, 2.5 V, or 3.3 V nominal.", B2 AVSSQ (power) "Ground for PLL.", B3 AVDDQ (power) "Power for internal PLL and USB serializer. 1.8 V nominal.", B5 UVDDQ (power) "Power for USB I/O. 3.3 V nominal.", B6 VGND (power) "Ground for core.", D5 VGND (power) "Ground for core.", D6 VDD (power) "Power for core. 1.8 V nominal.", E4 VGND (power) "Ground for core.", E5 PVDDQ (power) "Power for P-port I/O. 1.8 V, 2.5 V, or 3.3 V nominal.", E6 VGND (power) "Ground for core.", F1 SSVDDQ (power) "Power for SD port, is connected to SNVDDQ if using 16-bit NAND. 1.8 V, 2.5 V, or 3.3 V nominal.", F3 SSVDDQ (power) "Power for SD port, is connected to SNVDDQ if using 16-bit NAND. 1.8 V, 2.5 V, or 3.3 V nominal.", F4 SSVDDQ (power) "Power for SD port, is connected to SNVDDQ if using 16-bit NAND. 1.8 V, 2.5 V, or 3.3 V nominal.", F5 VGND (power) "Ground for core.", F6 VDD (power) "Power for core. 1.8 V nominal.", G5 SSVDDQ (power) "Power for SD port, is connected to SNVDDQ if using 16-bit NAND. 1.8 V, 2.5 V, or 3.3 V nominal.", G6 VDD (power) "Power for core. 1.8 V nominal.", H4 SSVDDQ (power) "Power for SD port, is connected to SNVDDQ if using 16-bit NAND. 1.8 V, 2.5 V, or 3.3 V nominal.", H5 SSVDDQ (power) "Power for SD port, is connected to SNVDDQ if using 16-bit NAND. 1.8 V, 2.5 V, or 3.3 V nominal.", J1 VDD (power) "Power for core. 1.8 V nominal.", J2 SSVDDQ (power) "Power for SD port, is connected to SNVDDQ if using 16-bit NAND. 1.8 V, 2.5 V, or 3.3 V nominal.", J3 SSVDDQ (power) "Power for SD port, is connected to SNVDDQ if using 16-bit NAND. 1.8 V, 2.5 V, or 3.3 V nominal.", J4 SSVDDQ (power) "Power for SD port, is connected to SNVDDQ if using 16-bit NAND. 1.8 V, 2.5 V, or 3.3 V nominal.", J5 SSVDDQ (power) "Power for SD port, is connected to SNVDDQ if using 16-bit NAND. 1.8 V, 2.5 V, or 3.3 V nominal."

## CYWB0220ABSX2-FDXIT
designator U?
West Bridge(R) Astoria(TM) USB and Mass Storage Peripheral Controller, -40 to 85 degC, 81-Pin WLCSP (FNX81), Tape and Reel; Manufacturer: Cypress; PartNumber: CYWB0220ABSX2-FDXIT; Max. Operating Voltage (V): 3.3; Min. Operating Voltage (V): 1.8; DatasheetVersion: Rev. *N; PackageVersion: Rev. *C; PackageReference: FNX81; PackageDescription: 81-Ball WLCSP, Body 3.91 x 3.907 mm, Pitch 0.4 mm; Max. Operating Temp. (degreesC): 85; Min. Operating Temp. (degreesC): -40; Packing: Tape and Reel; RoHS: Pb-Free; Mounting Technology: Surface Mount; Code_JEDEC: Publication 95; ComponentLink1Description: Manufacturer URL; ComponentLink1URL: http://www.cypress.com/; ComponentLink2Description: Datasheet; ComponentLink2URL: http://www.cypress.com/?docID=41721; ComponentLink3Description: Package Specification; ComponentLink3URL: http://www.cypress.com/?docID=45114
footprint CYP-FNX81 (BGA, 81-Balls, Body 3.91x3.91mm, Pitch 0.4mm)
part A pins: D1 SD_CD (in), E1 SD_D[0] (io) "SD Data or GPIO", E2 SD_D[1] (io) "SD Data or GPIO", E3 SD_D[4] (io) "SD Data or GPIO", F1 SD_D[2] (io) "SD Data or GPIO", F2 SD_D[3] (io) "SD Data or GPIO", F3 SD_D[7] (io) "SD Data or GPIO", G1 SD_CLK (io) "SD Clock or GPIO", G2 SD_D[5] (io) "SD Data or PIO", G4 PB[2] (io) "GPIO", H1 SD_D[6] (io) "SD Data or GPIO", H2 PB[0] (io) "GPIO", H3 PB[3] (io) "GPIO", H4 PB[5] (io) "GPIO", J1 SD_CMD (io) "SD CMD or GPIO", J2 PB[1] (io) "GPIO", J3 PB[4] (io) "GPIO", J4 PB[6] (io) "GPIO", J5 PB[7] (io) "GPIO"
part B pins: A7 WE# (in), A8 DQ[0]/AD[0]/IO[0] (io), B6 OE#/RE# (in), B7 ADV#/ALE (in), B8 DQ[1]/AD[1]/IO[1] (io), B9 DQ[4]/AD[4]/IO[4] (io), C1 INT# (hiz) "INT Request", C7 DQ[2]/AD[2]/IO[2] (io), C8 DQ[3]/AD[3]/IO[3] (io), C9 DQ[6]/AD[6]/IO[6] (io), D3 DACK# (in) "DMA ACK", D4 DRQ# (hiz) "DMA Request", D6 DQ[5]/AD[5]/IO[5] (io), D7 DQ[8]/AD[8]/IO[8] (io), D8 DQ[7]/AD[7]/IO[7] (io), D9 DQ[9]/AD[9]/IO[9] (io), E8 DQ[10]/AD[10]/IO[10] (io), E9 DQ[11]/AD[11]/IO[11] (io), F7 DQ[12]/AD[12]/IO[12] (io), F8 DQ[13]/AD[13]/IO[13] (io), F9 DQ[14]/AD[14]/IO[14] (io), G6 DQ[15]/AD[15]/IO[15] (io), G8 A[0]/CLE (in), G9 CE# (in), H5 A[7] (in), H6 A[5]/SCL (io), H7 A[4]/WP# (in), H8 A[2] (in), H9 A[1]/RB# (io), J8 A[6]/SDA (io), J9 A[3] (in)
part C pins: A1 XTALOUT "Clock OUT", A2 XTALIN (in) "Clock IN", A4 D+ (io) "USB D+", A5 D- (io) "USB D-", B1 TEST[0] (in) "Test Cfg 0", C2 RESET# (in) "RESET", C3 TEST[2] (in) "Test Cfg 2", C4 SWD+ (io) "USB Switch DP", C5 SWD- (io) "USB Switch DM", D5 TEST[1] (in) "Test Cfg 1", E5 WAKEUP (in) "Wake Up Signal", J6 GPIF_CTL (in) "Test Mode (ExtPull-High)", J7 GPIF_RDY (hiz) "Test Mode"
part D pins: A3 UVSSQ (power) "USB GND", A6 VDD (power) "Core VDD", A9 PVDDQ (power) "Processor I/F VDD", B2 AVSSQ (power) "Analog GND", B3 AVDDQ (power) "Analog VDD", B4 XVDDQ (power) "Crystal VDD", B5 UVDDQ (power) "USBVDD", C6 VDD (power) "Core VDD", D2 GVDDQ (power) "Misc I/O VDD", E4 SSVDDQ (power) "SDIO VDD", E6 VGND (power) "Core GND", E7 VDD (power) "Core VDD", F4 VGND (power) "Core GND", F5 VDD (power) "Core VDD", F6 PVDDQ (power) "Processor I/F VDD", G3 VGND (power) "Core GND", G5 VGND (power) "Core GND", G7 VGND (power) "Core GND"

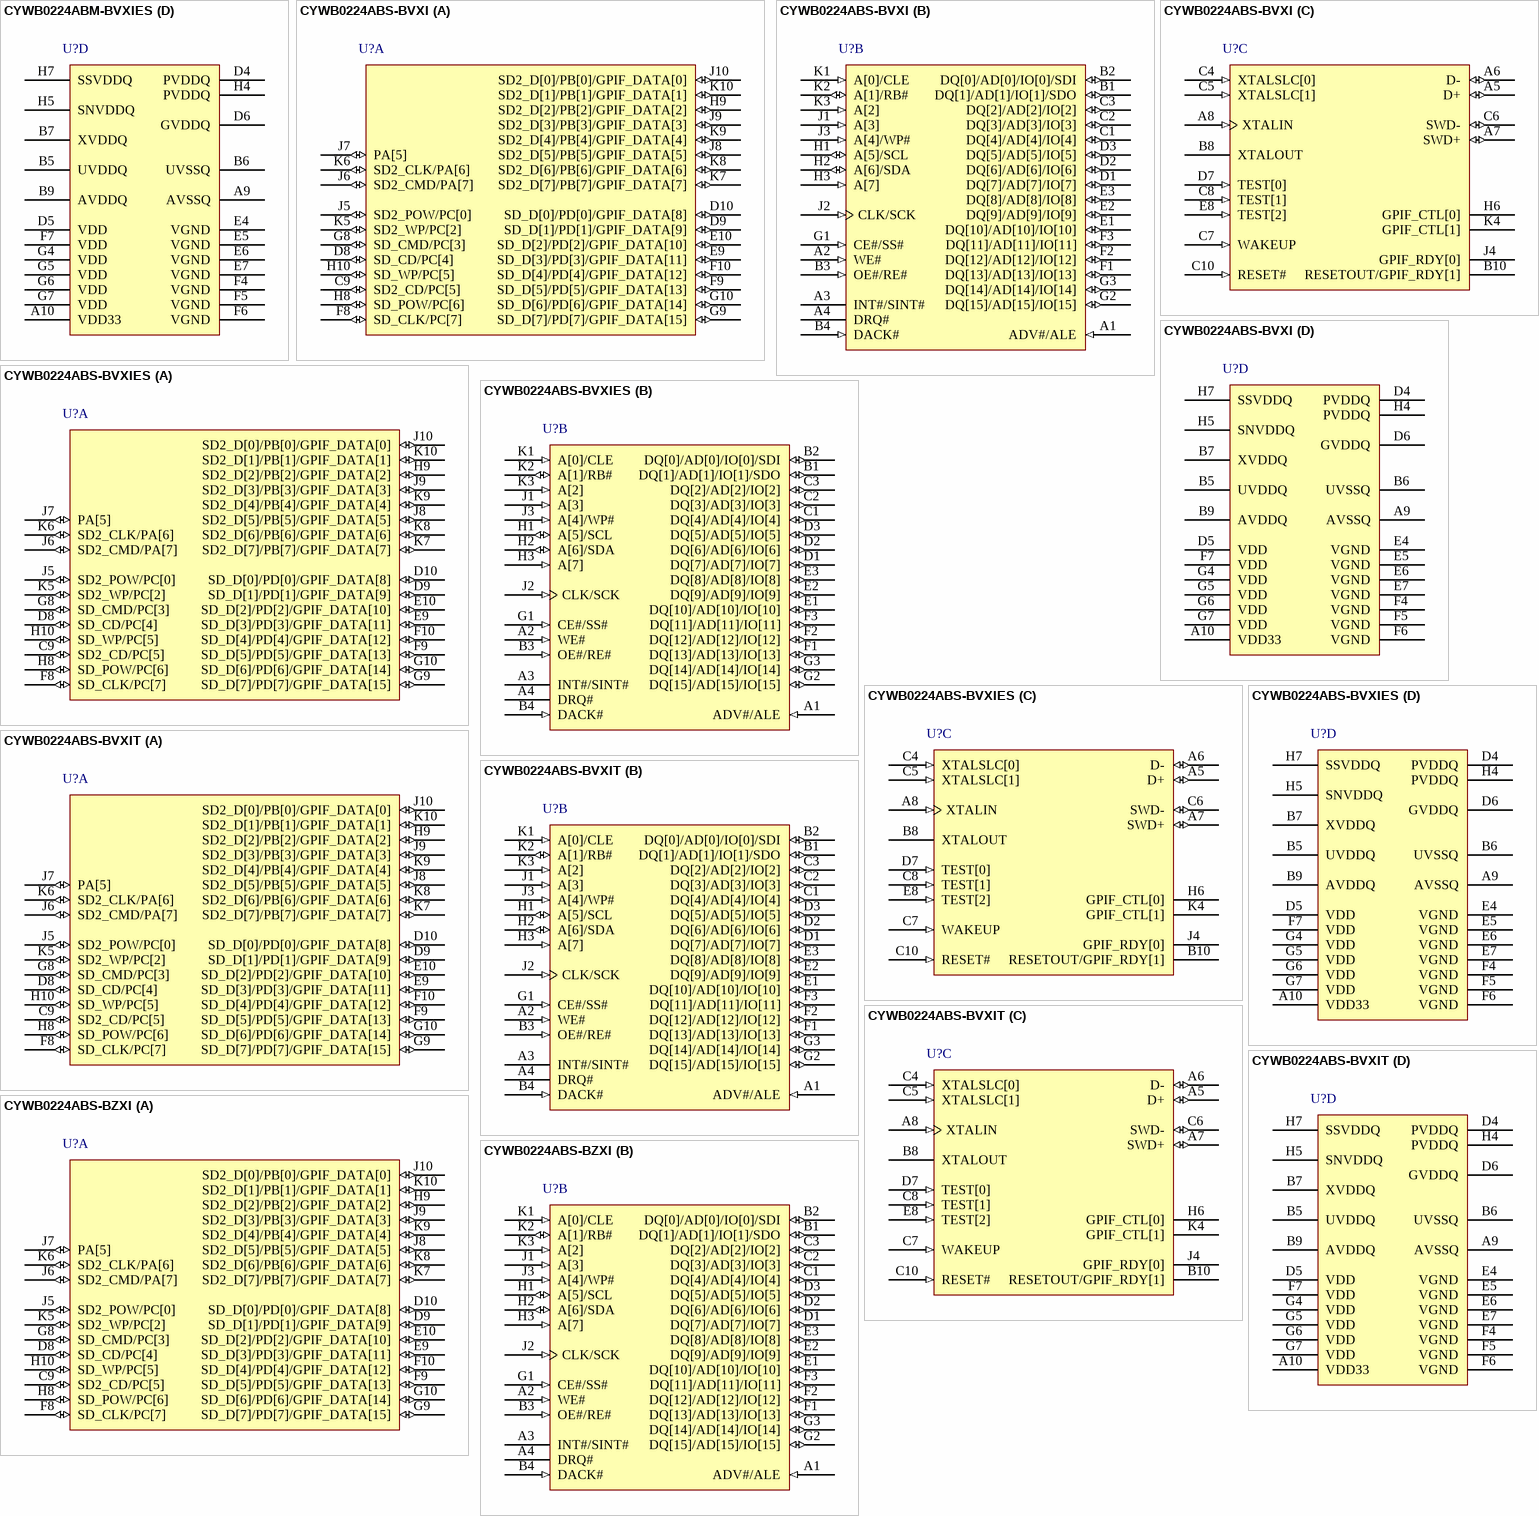
[diagram p19: symbols CYWB0224ABM-BVXIES to CYWB0224ABS-BZXI]

## CYWB0224ABM-BVXIES
designator U?
West Bridge(R) Astoria(TM) USB and Mass Storage Peripheral Controller, -40 to 85 degC, 100-Pin VFBGA (BVX100); Manufacturer: Cypress; PartNumber: CYWB0224ABM-BVXIES; Max. Operating Voltage (V): 3.3; Min. Operating Voltage (V): 1.8; DatasheetVersion: Rev. *N; PackageVersion: Rev. *D; PackageReference: BVX100; PackageDescription: 100-Ball Fine-Pitch Ball Grid Array, Body 6 x 6 mm, Pitch 0.50 mm; Max. Operating Temp. (degreesC): 85; Min. Operating Temp. (degreesC): -40; RoHS: Pb-Free; Mounting Technology: Surface Mount; ComponentLink1Description: Manufacturer URL; ComponentLink1URL: http://www.cypress.com/; ComponentLink2Description: Datasheet; ComponentLink2URL: http://www.cypress.com/?docID=41721; ComponentLink3Description: Package Specification; ComponentLink3URL: http://www.cypress.com/?docID=46966
footprint CYP-BVX100 (BGA, 100-Balls, Body 6x6mm, Pitch 0.5mm)
part A pins: C9 SD2_CD/PC[5] (io), D8 SD_CD/PC[4] (io), D9 SD_D[1]/PD[1]/GPIF_DATA[9] (io), D10 SD_D[0]/PD[0]/GPIF_DATA[8] (io), E9 SD_D[3]/PD[3]/GPIF_DATA[11] (io), E10 SD_D[2]/PD[2]/GPIF_DATA[10] (io), F8 SD_CLK/PC[7] (io), F9 SD_D[5]/PD[5]/GPIF_DATA[13] (io), F10 SD_D[4]/PD[4]/GPIF_DATA[12] (io), G8 SD_CMD/PC[3] (io), G9 SD_D[7]/PD[7]/GPIF_DATA[15] (io), G10 SD_D[6]/PD[6]/GPIF_DATA[14] (io), H8 SD_POW/PC[6] (io), H9 SD2_D[2]/PB[2]/GPIF_DATA[2] (io), H10 SD_WP/PC[5] (io) "SD Write Protect", J5 SD2_POW/PC[0] (io), J6 SD2_CMD/PA[7] (io), J7 PA[5] (io), J8 SD2_D[5]/PB[5]/GPIF_DATA[5] (io), J9 SD2_D[3]/PB[3]/GPIF_DATA[3] (io), J10 SD2_D[0]/PB[0]/GPIF_DATA[0] (io), K5 SD2_WP/PC[2] (io), K6 SD2_CLK/PA[6] (io), K7 SD2_D[7]/PB[7]/GPIF_DATA[7] (io), K8 SD2_D[6]/PB[6]/GPIF_DATA[6] (io), K9 SD2_D[4]/PB[4]/GPIF_DATA[4] (io), K10 SD2_D[1]/PB[1]/GPIF_DATA[1] (io)
part B pins: A1 ADV#/ALE (in), A2 WE# (in), A3 INT#/SINT# (hiz), A4 DRQ# (hiz) "DMA Request", B1 DQ[1]/AD[1]/IO[1]/SDO (io), B2 DQ[0]/AD[0]/IO[0]/SDI (io), B3 OE#/RE# (in), B4 DACK# (in) "DMA Acknowledgement", C1 DQ[4]/AD[4]/IO[4] (io), C2 DQ[3]/AD[3]/IO[3] (io), C3 DQ[2]/AD[2]/IO[2] (io), D1 DQ[7]/AD[7]/IO[7] (io), D2 DQ[6]/AD[6]/IO[6] (io), D3 DQ[5]/AD[5]/IO[5] (io), E1 DQ[10]/AD[10]/IO[10] (io), E2 DQ[9]/AD[9]/IO[9] (io), E3 DQ[8]/AD[8]/IO[8] (io), F1 DQ[13]/AD[13]/IO[13] (io), F2 DQ[12]/AD[12]/IO[12] (io), F3 DQ[11]/AD[11]/IO[11] (io), G1 CE#/SS# (in), G2 DQ[15]/AD[15]/IO[15] (io), G3 DQ[14]/AD[14]/IO[14] (io), H1 A[5]/SCL (io), H2 A[6]/SDA (io), H3 A[7] (in) "Addr. Bus 7", J1 A[3] (in) "Addr. Bus 3", J2 CLK/SCK (in), J3 A[4]/WP# (in), K1 A[0]/CLE (in), K2 A[1]/RB# (io), K3 A[2] (in) "Addr. Bus 2"
part C pins: A5 D+ (io) "USB D+", A6 D- (io) "USB D-", A7 SWD+ (io) "USB Switch DP", A8 XTALIN (in) "Crystal / Clock IN", B8 XTALOUT "Crystal Out", B10 RESETOUT/GPIF_RDY[1] (hiz), C4 XTALSLC[0] (in) "Clock Select 0", C5 XTALSLC[1] (in) "Clock Select 1", C6 SWD- (io) "USB Switch DM", C7 WAKEUP (in) "Wake Up Signal", C8 TEST[1] (in) "Test Cfg 1", C10 RESET# (in) "RESET", D7 TEST[0] (in) "Test Cfg 0", E8 TEST[2] (in) "Test Cfg 2", H6 GPIF_CTL[0] (hiz), J4 GPIF_RDY[0] (hiz), K4 GPIF_CTL[1] (hiz)
part D pins: A9 AVSSQ (power) "Analog GND", A10 VDD33 (power) "Independent 3.3 V", B5 UVDDQ (power) "USB VDD", B6 UVSSQ (power) "USB GND", B7 XVDDQ (power) "Crystal VDD", B9 AVDDQ (power) "Analog VDD", D4 PVDDQ (power) "Processor I/F VDD", D5 VDD (power) "Core VDD", D6 GVDDQ (power) "Misc I/O VDD", E4 VGND (power) "Core GND", E5 VGND (power) "Core GND", E6 VGND (power) "Core GND", E7 VGND (power) "Core GND", F4 VGND (power) "Core GND", F5 VGND (power) "Core GND", F6 VGND (power) "Core GND", F7 VDD (power) "Core VDD", G4 VDD (power) "Core VDD", G5 VDD (power) "Core VDD", G6 VDD (power) "Core VDD", G7 VDD (power) "Core VDD", H4 PVDDQ (power) "Processor I/F VDD", H5 SNVDDQ (power) "GPIF VDD", H7 SSVDDQ (power) "SDIO VDD"

## CYWB0224ABS-BVXI
designator U?
West Bridge(R) Astoria(TM) USB and Mass Storage Peripheral Controller, -40 to 85 degC, 100-Pin VFBGA (BVX100), Tray; Manufacturer: Cypress; PartNumber: CYWB0224ABS-BVXI; Max. Operating Voltage (V): 3.3; Min. Operating Voltage (V): 1.8; DatasheetVersion: Rev. *N; PackageVersion: Rev. *D; PackageReference: BVX100; PackageDescription: 100-Ball Fine-Pitch Ball Grid Array, Body 6 x 6 mm, Pitch 0.50 mm; Supplier 1: Digi-Key; Supplier Part Number 1: CYWB0224ABS-BVXI-ND; Supplier 2: Mouser; Supplier Part Number 2: 727-CYWB0224ABS-BVXI; Max. Operating Temp. (degreesC): 85; Min. Operating Temp. (degreesC): -40; Packing: Tray; RoHS: Pb-Free; Mounting Technology: Surface Mount; ComponentLink1Description: Manufacturer URL; ComponentLink1URL: http://www.cypress.com/; ComponentLink2Description: Datasheet; ComponentLink2URL: http://www.cypress.com/?docID=41721; ComponentLink3Description: Package Specification; ComponentLink3URL: http://www.cypress.com/?docID=46966
footprint CYP-BVX100 (BGA, 100-Balls, Body 6x6mm, Pitch 0.5mm)
part A pins: C9 SD2_CD/PC[5] (io), D8 SD_CD/PC[4] (io), D9 SD_D[1]/PD[1]/GPIF_DATA[9] (io), D10 SD_D[0]/PD[0]/GPIF_DATA[8] (io), E9 SD_D[3]/PD[3]/GPIF_DATA[11] (io), E10 SD_D[2]/PD[2]/GPIF_DATA[10] (io), F8 SD_CLK/PC[7] (io), F9 SD_D[5]/PD[5]/GPIF_DATA[13] (io), F10 SD_D[4]/PD[4]/GPIF_DATA[12] (io), G8 SD_CMD/PC[3] (io), G9 SD_D[7]/PD[7]/GPIF_DATA[15] (io), G10 SD_D[6]/PD[6]/GPIF_DATA[14] (io), H8 SD_POW/PC[6] (io), H9 SD2_D[2]/PB[2]/GPIF_DATA[2] (io), H10 SD_WP/PC[5] (io) "SD Write Protect", J5 SD2_POW/PC[0] (io), J6 SD2_CMD/PA[7] (io), J7 PA[5] (io), J8 SD2_D[5]/PB[5]/GPIF_DATA[5] (io), J9 SD2_D[3]/PB[3]/GPIF_DATA[3] (io), J10 SD2_D[0]/PB[0]/GPIF_DATA[0] (io), K5 SD2_WP/PC[2] (io), K6 SD2_CLK/PA[6] (io), K7 SD2_D[7]/PB[7]/GPIF_DATA[7] (io), K8 SD2_D[6]/PB[6]/GPIF_DATA[6] (io), K9 SD2_D[4]/PB[4]/GPIF_DATA[4] (io), K10 SD2_D[1]/PB[1]/GPIF_DATA[1] (io)
part B pins: A1 ADV#/ALE (in), A2 WE# (in), A3 INT#/SINT# (hiz), A4 DRQ# (hiz) "DMA Request", B1 DQ[1]/AD[1]/IO[1]/SDO (io), B2 DQ[0]/AD[0]/IO[0]/SDI (io), B3 OE#/RE# (in), B4 DACK# (in) "DMA Acknowledgement", C1 DQ[4]/AD[4]/IO[4] (io), C2 DQ[3]/AD[3]/IO[3] (io), C3 DQ[2]/AD[2]/IO[2] (io), D1 DQ[7]/AD[7]/IO[7] (io), D2 DQ[6]/AD[6]/IO[6] (io), D3 DQ[5]/AD[5]/IO[5] (io), E1 DQ[10]/AD[10]/IO[10] (io), E2 DQ[9]/AD[9]/IO[9] (io), E3 DQ[8]/AD[8]/IO[8] (io), F1 DQ[13]/AD[13]/IO[13] (io), F2 DQ[12]/AD[12]/IO[12] (io), F3 DQ[11]/AD[11]/IO[11] (io), G1 CE#/SS# (in), G2 DQ[15]/AD[15]/IO[15] (io), G3 DQ[14]/AD[14]/IO[14] (io), H1 A[5]/SCL (io), H2 A[6]/SDA (io), H3 A[7] (in) "Addr. Bus 7", J1 A[3] (in) "Addr. Bus 3", J2 CLK/SCK (in), J3 A[4]/WP# (in), K1 A[0]/CLE (in), K2 A[1]/RB# (io), K3 A[2] (in) "Addr. Bus 2"
part C pins: A5 D+ (io) "USB D+", A6 D- (io) "USB D-", A7 SWD+ (io) "USB Switch DP", A8 XTALIN (in) "Crystal / Clock IN", B8 XTALOUT "Crystal Out", B10 RESETOUT/GPIF_RDY[1] (hiz), C4 XTALSLC[0] (in) "Clock Select 0", C5 XTALSLC[1] (in) "Clock Select 1", C6 SWD- (io) "USB Switch DM", C7 WAKEUP (in) "Wake Up Signal", C8 TEST[1] (in) "Test Cfg 1", C10 RESET# (in) "RESET", D7 TEST[0] (in) "Test Cfg 0", E8 TEST[2] (in) "Test Cfg 2", H6 GPIF_CTL[0] (hiz), J4 GPIF_RDY[0] (hiz), K4 GPIF_CTL[1] (hiz)
part D pins: A9 AVSSQ (power) "Analog GND", A10 VDD33 (power) "Independent 3.3 V", B5 UVDDQ (power) "USB VDD", B6 UVSSQ (power) "USB GND", B7 XVDDQ (power) "Crystal VDD", B9 AVDDQ (power) "Analog VDD", D4 PVDDQ (power) "Processor I/F VDD", D5 VDD (power) "Core VDD", D6 GVDDQ (power) "Misc I/O VDD", E4 VGND (power) "Core GND", E5 VGND (power) "Core GND", E6 VGND (power) "Core GND", E7 VGND (power) "Core GND", F4 VGND (power) "Core GND", F5 VGND (power) "Core GND", F6 VGND (power) "Core GND", F7 VDD (power) "Core VDD", G4 VDD (power) "Core VDD", G5 VDD (power) "Core VDD", G6 VDD (power) "Core VDD", G7 VDD (power) "Core VDD", H4 PVDDQ (power) "Processor I/F VDD", H5 SNVDDQ (power) "GPIF VDD", H7 SSVDDQ (power) "SDIO VDD"

## CYWB0224ABS-BVXIES
designator U?
West Bridge(R) Astoria(TM) USB and Mass Storage Peripheral Controller, -40 to 85 degC, 100-Pin VFBGA (BVX100), Tray; Manufacturer: Cypress; PartNumber: CYWB0224ABS-BVXIES; Max. Operating Voltage (V): 3.3; Min. Operating Voltage (V): 1.8; DatasheetVersion: Rev. *N; PackageVersion: Rev. *D; PackageReference: BVX100; PackageDescription: 100-Ball Fine-Pitch Ball Grid Array, Body 6 x 6 mm, Pitch 0.50 mm; Max. Operating Temp. (degreesC): 85; Min. Operating Temp. (degreesC): -40; Packing: Tray; RoHS: Pb-Free; Mounting Technology: Surface Mount; ComponentLink1Description: Manufacturer URL; ComponentLink1URL: http://www.cypress.com/; ComponentLink2Description: Datasheet; ComponentLink2URL: http://www.cypress.com/?docID=41721; ComponentLink3Description: Package Specification; ComponentLink3URL: http://www.cypress.com/?docID=46966
footprint CYP-BVX100 (BGA, 100-Balls, Body 6x6mm, Pitch 0.5mm)
part A pins: C9 SD2_CD/PC[5] (io), D8 SD_CD/PC[4] (io), D9 SD_D[1]/PD[1]/GPIF_DATA[9] (io), D10 SD_D[0]/PD[0]/GPIF_DATA[8] (io), E9 SD_D[3]/PD[3]/GPIF_DATA[11] (io), E10 SD_D[2]/PD[2]/GPIF_DATA[10] (io), F8 SD_CLK/PC[7] (io), F9 SD_D[5]/PD[5]/GPIF_DATA[13] (io), F10 SD_D[4]/PD[4]/GPIF_DATA[12] (io), G8 SD_CMD/PC[3] (io), G9 SD_D[7]/PD[7]/GPIF_DATA[15] (io), G10 SD_D[6]/PD[6]/GPIF_DATA[14] (io), H8 SD_POW/PC[6] (io), H9 SD2_D[2]/PB[2]/GPIF_DATA[2] (io), H10 SD_WP/PC[5] (io) "SD Write Protect", J5 SD2_POW/PC[0] (io), J6 SD2_CMD/PA[7] (io), J7 PA[5] (io), J8 SD2_D[5]/PB[5]/GPIF_DATA[5] (io), J9 SD2_D[3]/PB[3]/GPIF_DATA[3] (io), J10 SD2_D[0]/PB[0]/GPIF_DATA[0] (io), K5 SD2_WP/PC[2] (io), K6 SD2_CLK/PA[6] (io), K7 SD2_D[7]/PB[7]/GPIF_DATA[7] (io), K8 SD2_D[6]/PB[6]/GPIF_DATA[6] (io), K9 SD2_D[4]/PB[4]/GPIF_DATA[4] (io), K10 SD2_D[1]/PB[1]/GPIF_DATA[1] (io)
part B pins: A1 ADV#/ALE (in), A2 WE# (in), A3 INT#/SINT# (hiz), A4 DRQ# (hiz) "DMA Request", B1 DQ[1]/AD[1]/IO[1]/SDO (io), B2 DQ[0]/AD[0]/IO[0]/SDI (io), B3 OE#/RE# (in), B4 DACK# (in) "DMA Acknowledgement", C1 DQ[4]/AD[4]/IO[4] (io), C2 DQ[3]/AD[3]/IO[3] (io), C3 DQ[2]/AD[2]/IO[2] (io), D1 DQ[7]/AD[7]/IO[7] (io), D2 DQ[6]/AD[6]/IO[6] (io), D3 DQ[5]/AD[5]/IO[5] (io), E1 DQ[10]/AD[10]/IO[10] (io), E2 DQ[9]/AD[9]/IO[9] (io), E3 DQ[8]/AD[8]/IO[8] (io), F1 DQ[13]/AD[13]/IO[13] (io), F2 DQ[12]/AD[12]/IO[12] (io), F3 DQ[11]/AD[11]/IO[11] (io), G1 CE#/SS# (in), G2 DQ[15]/AD[15]/IO[15] (io), G3 DQ[14]/AD[14]/IO[14] (io), H1 A[5]/SCL (io), H2 A[6]/SDA (io), H3 A[7] (in) "Addr. Bus 7", J1 A[3] (in) "Addr. Bus 3", J2 CLK/SCK (in), J3 A[4]/WP# (in), K1 A[0]/CLE (in), K2 A[1]/RB# (io), K3 A[2] (in) "Addr. Bus 2"
part C pins: A5 D+ (io) "USB D+", A6 D- (io) "USB D-", A7 SWD+ (io) "USB Switch DP", A8 XTALIN (in) "Crystal / Clock IN", B8 XTALOUT "Crystal Out", B10 RESETOUT/GPIF_RDY[1] (hiz), C4 XTALSLC[0] (in) "Clock Select 0", C5 XTALSLC[1] (in) "Clock Select 1", C6 SWD- (io) "USB Switch DM", C7 WAKEUP (in) "Wake Up Signal", C8 TEST[1] (in) "Test Cfg 1", C10 RESET# (in) "RESET", D7 TEST[0] (in) "Test Cfg 0", E8 TEST[2] (in) "Test Cfg 2", H6 GPIF_CTL[0] (hiz), J4 GPIF_RDY[0] (hiz), K4 GPIF_CTL[1] (hiz)
part D pins: A9 AVSSQ (power) "Analog GND", A10 VDD33 (power) "Independent 3.3 V", B5 UVDDQ (power) "USB VDD", B6 UVSSQ (power) "USB GND", B7 XVDDQ (power) "Crystal VDD", B9 AVDDQ (power) "Analog VDD", D4 PVDDQ (power) "Processor I/F VDD", D5 VDD (power) "Core VDD", D6 GVDDQ (power) "Misc I/O VDD", E4 VGND (power) "Core GND", E5 VGND (power) "Core GND", E6 VGND (power) "Core GND", E7 VGND (power) "Core GND", F4 VGND (power) "Core GND", F5 VGND (power) "Core GND", F6 VGND (power) "Core GND", F7 VDD (power) "Core VDD", G4 VDD (power) "Core VDD", G5 VDD (power) "Core VDD", G6 VDD (power) "Core VDD", G7 VDD (power) "Core VDD", H4 PVDDQ (power) "Processor I/F VDD", H5 SNVDDQ (power) "GPIF VDD", H7 SSVDDQ (power) "SDIO VDD"